# Altium schematic symbol library lipo battery.SchLib: 1 symbol
Pins are listed as number, name and electrical type; pins without a type are passive.

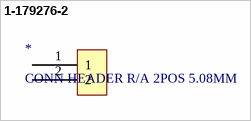
[diagram p0: symbol 1-179276-2]

## 1-179276-2
designator *, comment CONN HEADER R/A 2POS 5.08MM
manufacturer: TE Connectivity AMP Connectors; manufacturer part number: 1-179276-2; Supplier 1: Rs; ComponentLink1Description: product url; ComponentLink1URL: https://www.digikey.com/en/products/detail/te-connectivity-amp-connectors/1-179276-2/664296; Supplier Part Number 1: 7189696P
footprint 1-179276-2 (2_POS_HDR_X19MM_Y22MM)
pins: 1, 2